# Altium footprint library PcbLib1.PcbLib: 14 footprints
Each footprint in its own frame and in the unit in brackets; x right, y up, seen from the top. Pads: shape width x height; smd on the part's side, far side on the other; paste and mask are expansions set on the pad; w line width, h text height; cw(c..) or ccw(c..) is an arc to the next point about the centre after c.
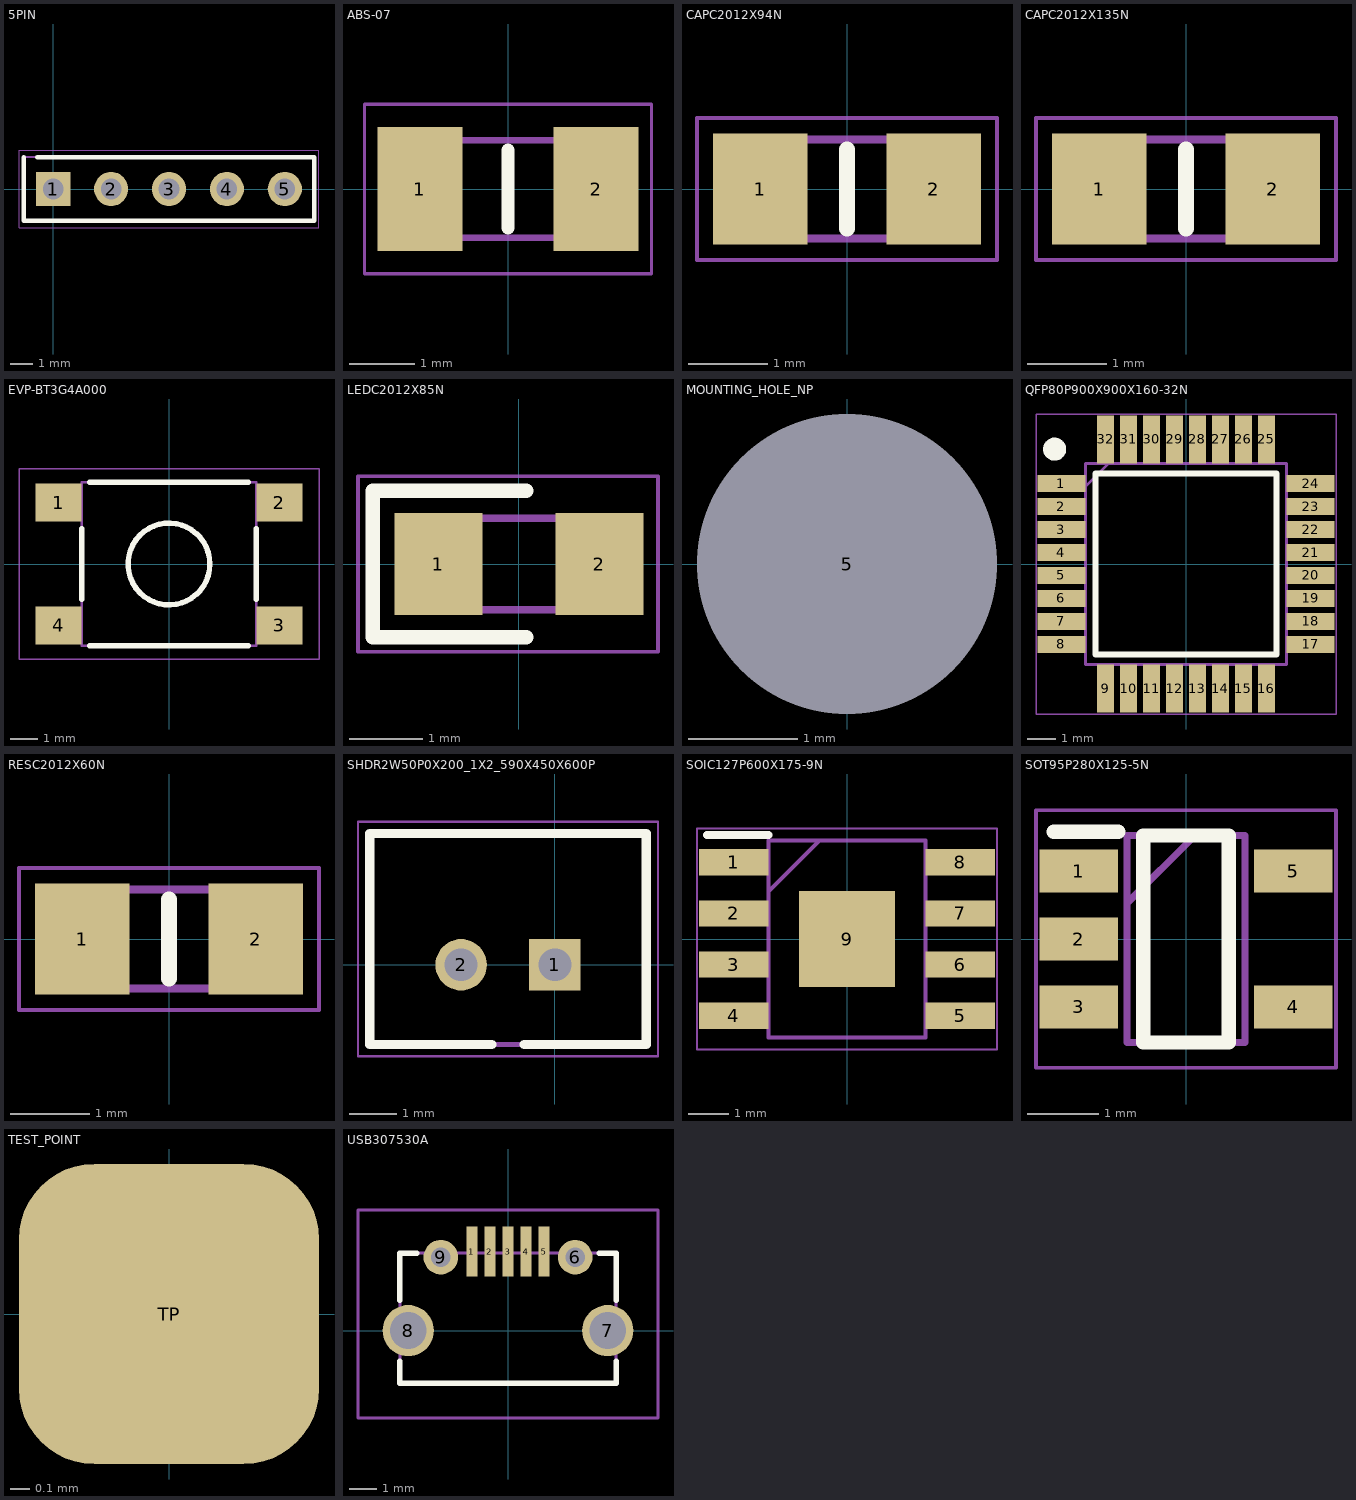
[diagram p0: the footprints below, top view; thin cyan lines are the x and y axes]

## 5PIN [mm] "Connector; Edge; 22 Position"
pads (5):
  rect 1.5x1.5 hole 0.9: 1(0,0)
  round 1.5 hole 0.9: 2(2.54,0) 3(5.08,0) 4(7.62,0) 5(10.16,0)
Top Overlay:
  lines w0.2: -1.3,1.4 -1.3,-1.4 11.46,-1.4 11.46,1.4 -0.7,1.4
Mechanical 13:
  lines w0.1: -1.3,-1.4 11.46,-1.4 11.46,1.4 -1.3,1.4 -1.3,-1.4
Mechanical 15:
  lines w0.05: -1.5,-1.7 -1.5,1.7 11.66,1.7 11.66,-1.7 -1.5,-1.7
3D body "pin_header_aw140-eg-g05d.SLDPRT": height 8.2, standoff -3, extent -1.17,-1.246 11.53,1.253

## ABS-07 [mm]
pads (2):
  rect 1.3x1.9 smd: 1(-1.35,0) 2(1.35,0)
Top Overlay:
  lines w0.2: 0,-0.6 0,0.6
Mechanical 13:
  lines w0.1: -1.6,-0.75 -1.6,0.75 1.6,0.75 1.6,-0.75 -1.6,-0.75
Mechanical 15:
  lines w0.05: -2.2,-1.3 -2.2,1.3 2.2,1.3 2.2,-1.3 -2.2,-1.3
3D body "ABS07-32.768KHZ-9-T.stp": height 0.9, standoff 0, extent -1.6,-0.75 1.6,0.75

## CAPC2012X94N [mm]
pads (2):
  rect 1.2x1.4 smd: 1(-1.1,0) 2(1.1,0)
Top Overlay:
  lines w0.2: 0,-0.5 0,0.5
Mechanical 13:
  lines w0.1: -1,-0.625 1,-0.625 1,0.625 -1,0.625 -1,-0.625
Mechanical 15:
  lines w0.05: -1.9,-0.9 -1.9,0.9 1.9,0.9 1.9,-0.9 -1.9,-0.9
3D body "08055A4R3CAT2A.stp": height 0.94, standoff 0, extent -1.005,-0.625 1.005,0.625

## CAPC2012X135N [mm]
pads (2):
  rect 1.2x1.4 smd: 1(-1.1,0) 2(1.1,0)
Top Overlay:
  lines w0.2: 0,-0.5 0,0.5
Mechanical 13:
  lines w0.1: -1,-0.625 1,-0.625 1,0.625 -1,0.625 -1,-0.625
Mechanical 15:
  lines w0.05: -1.9,-0.9 -1.9,0.9 1.9,0.9 1.9,-0.9 -1.9,-0.9
3D body "885012107015.stp": height 1.35, standoff 0, extent -1,-0.625 1,0.625

## EVP-BT3G4A000 [mm]
pads (4):
  rect 1.7x1.4 smd: 1(-4.05,2.25) 2(4.05,2.25) 3(4.05,-2.25) 4(-4.05,-2.25)
Top Overlay:
  circle w0.2: c0,0 r1.5
  lines w0.2: -3.2,-1.3 -3.2,1.3 ; -2.9,-3 2.9,-3 ; -2.9,3 2.9,3 ; 3.2,-1.3 3.2,1.3
Mechanical 13:
  lines w0.1: -3.2,-3 -3.2,3 3.2,3 3.2,-3 -3.2,-3
Mechanical 15:
  lines w0.05: -5.5,-3.5 -5.5,3.5 5.5,3.5 5.5,-3.5 -5.5,-3.5
3D body: height 4.3, standoff 0, extent -1.9,-1.9 1.9,1.9
3D body: height 1.8, standoff 0, extent -3.2,-3 3.2,3

## LEDC2012X85N [mm]
pads (2):
  rect 1.2x1.4 smd: 1(-1.1,0) 2(1.1,0)
Top Overlay:
  lines w0.2: 0.1,-1 -2,-1 -2,1 0.1,1
Mechanical 13:
  lines w0.1: -1,0.208 -0.583,0.625 ; -1,-0.625 1,-0.625 1,0.625 -1,0.625 -1,-0.625
Mechanical 15:
  lines w0.05: -2.2,-1.2 1.9,-1.2 1.9,1.2 -2.2,1.2 -2.2,-1.2
3D body "User Library-LED-0805-G.sldprt": height 1.1, standoff 0, extent -1,-0.625 1,0.625

## MOUNTING_HOLE_NP [mil]
pads (1):
  round 60 hole 108.27 unplated mask+86.61: 5(0,0)

## QFP80P900X900X160-32N [mm]
pads (32):
  rect 1.675x0.6 smd: 1(-4.338,2.8) 2(-4.338,2) 3(-4.338,1.2) 4(-4.338,0.4) 5(-4.338,-0.4) 6(-4.338,-1.2) 7(-4.338,-2) 8(-4.338,-2.8) 17(4.338,-2.8) 18(4.338,-2) 19(4.338,-1.2) 20(4.338,-0.4) 21(4.338,0.4) 22(4.338,1.2) 23(4.338,2) 24(4.338,2.8)
  rect 0.6x1.675 smd: 9(-2.8,-4.338) 10(-2,-4.338) 11(-1.2,-4.338) 12(-0.4,-4.338) 13(0.4,-4.338) 14(1.2,-4.338) 15(2,-4.338) 16(2.8,-4.338) 25(2.8,4.338) 26(2,4.338) 27(1.2,4.338) 28(0.4,4.338) 29(-0.4,4.338) 30(-1.2,4.338) 31(-2,4.338) 32(-2.8,4.338)
Top Overlay:
  circle w0.4: c-4.575,4 r0.2
  lines w0.2: -3.15,-3.15 -3.15,3.15 3.15,3.15 3.15,-3.15 -3.15,-3.15
Mechanical 13:
  lines w0.1: -3.5,2.7 -2.7,3.5 ; -3.5,-3.5 -3.5,3.5 3.5,3.5 3.5,-3.5 -3.5,-3.5
Mechanical 15:
  lines w0.05: -5.225,-5.225 -5.225,5.225 5.225,5.225 5.225,-5.225 -5.225,-5.225
3D body "STM32L031K6T6.stp": height 1.6, standoff 0, extent -4.5,-4.5 4.5,4.5

## RESC2012X60N [mm]
pads (2):
  rect 1.2x1.4 smd: 1(-1.1,0) 2(1.1,0)
Top Overlay:
  lines w0.2: 0,-0.5 0,0.5
Mechanical 13:
  lines w0.1: -1,-0.625 -1,0.625 1,0.625 1,-0.625 -1,-0.625
Mechanical 15:
  lines w0.05: -1.9,-0.9 1.9,-0.9 1.9,0.9 -1.9,0.9 -1.9,-0.9
3D body "RC0805FR-0710KL.stp": height 0.6, standoff 0, extent -1,-0.625 1,0.625

## SHDR2W50P0X200_1X2_590X450X600P [mm]
pads (2):
  rect 1.1x1.1 hole 0.7: 1(0,0)
  round 1.1 hole 0.7: 2(-2,0)
Top Overlay:
  lines w0.2: -1.35,-1.7 -3.95,-1.7 -3.95,2.8 1.95,2.8 1.95,-1.7 -0.65,-1.7
Mechanical 13:
  lines w0.1: -3.95,-1.7 -3.95,2.8 1.95,2.8 1.95,-1.7 -3.95,-1.7
Mechanical 15:
  lines w0.05: -4.2,-1.95 -4.2,3.05 2.2,3.05 2.2,-1.95 -4.2,-1.95
3D body "User Library-JST B2B-PH-K-S.sldprt": height 6, standoff -3.4, extent -3.95,-1.7 1.95,2.8

## SOIC127P600X175-9N [mm]
pads (9):
  rect 1.725x0.65 smd: 1(-2.812,1.905) 2(-2.812,0.635) 3(-2.812,-0.635) 4(-2.812,-1.905) 5(2.812,-1.905) 6(2.812,-0.635) 7(2.812,0.635) 8(2.812,1.905)
  rect 2.39x2.39 smd: 9(0,0)
Top Overlay:
  lines w0.2: -3.475,2.58 -1.95,2.58
Mechanical 13:
  lines w0.1: -1.95,1.18 -0.68,2.45 ; -1.95,-2.45 1.95,-2.45 1.95,2.45 -1.95,2.45 -1.95,-2.45
Mechanical 15:
  lines w0.05: -3.725,-2.75 3.725,-2.75 3.725,2.75 -3.725,2.75 -3.725,-2.75
3D body "TB67H450FNG,EL.stp": height 1.75, standoff 0, extent -2.997,-2.45 2.997,2.45

## SOT95P280X125-5N [mm]
pads (5):
  rect 1.1x0.6 smd: 1(-1.5,0.95) 2(-1.5,0) 3(-1.5,-0.95) 4(1.5,-0.95) 5(1.5,0.95)
Top Overlay:
  lines w0.2: -1.85,1.5 -0.95,1.5 ; -0.6,-1.45 -0.6,1.45 0.6,1.45 0.6,-1.45 -0.6,-1.45
Mechanical 13:
  lines w0.1: -0.825,0.5 0.125,1.45 ; -0.825,-1.45 -0.825,1.45 0.825,1.45 0.825,-1.45 -0.825,-1.45
Mechanical 15:
  lines w0.05: -2.1,-1.8 -2.1,1.8 2.1,1.8 2.1,-1.8 -2.1,-1.8
3D body "BU33SD5WG-TR.stp": height 1.25, standoff 0, extent -1.4,-1.45 1.4,1.45

## TEST_POINT [mil] "Test point"
pads (1):
  rrect50% 60x60 smd: TP(0,0)

## USB307530A [mm]
pads (9):
  rect 0.4x1.8 smd: 1(-1.3,2.85) 2(-0.65,2.85) 3(0,2.85) 4(0.65,2.85) 5(1.3,2.85)
  round 1.25 hole 0.7: 6(2.425,2.65) 9(-2.425,2.65)
  round 1.85 hole 1.328: 7(3.6,0) 8(-3.6,0)
Top Overlay:
  lines w0.2: -3.9,-1.1 -3.9,-1.9 3.9,-1.9 3.9,-1.1 ; -3.9,1.1 -3.9,2.8 -3.3,2.8 ; 3.3,2.8 3.9,2.8 3.9,1.1
Mechanical 13:
  lines w0.1: -3.9,-1.9 3.9,-1.9 3.9,2.8 -3.9,2.8 -3.9,-1.9
Mechanical 15:
  lines w0.1: -5.415,-3.15 5.415,-3.15 5.415,4.35 -5.415,4.35 -5.415,-3.15
3D body "USB3075-30-A.stp": height 2.49, standoff -1.17, extent -3.9,-2.765 3.9,2.775